# Altium footprint library Test.PcbLib: 22 footprints (part 2 of 2)
Each footprint in its own frame and in the unit in brackets; x right, y up, seen from the top. Pads: shape width x height; smd on the part's side, far side on the other; paste and mask are expansions set on the pad; w line width, h text height; cw(c..) or ccw(c..) is an arc to the next point about the centre after c.
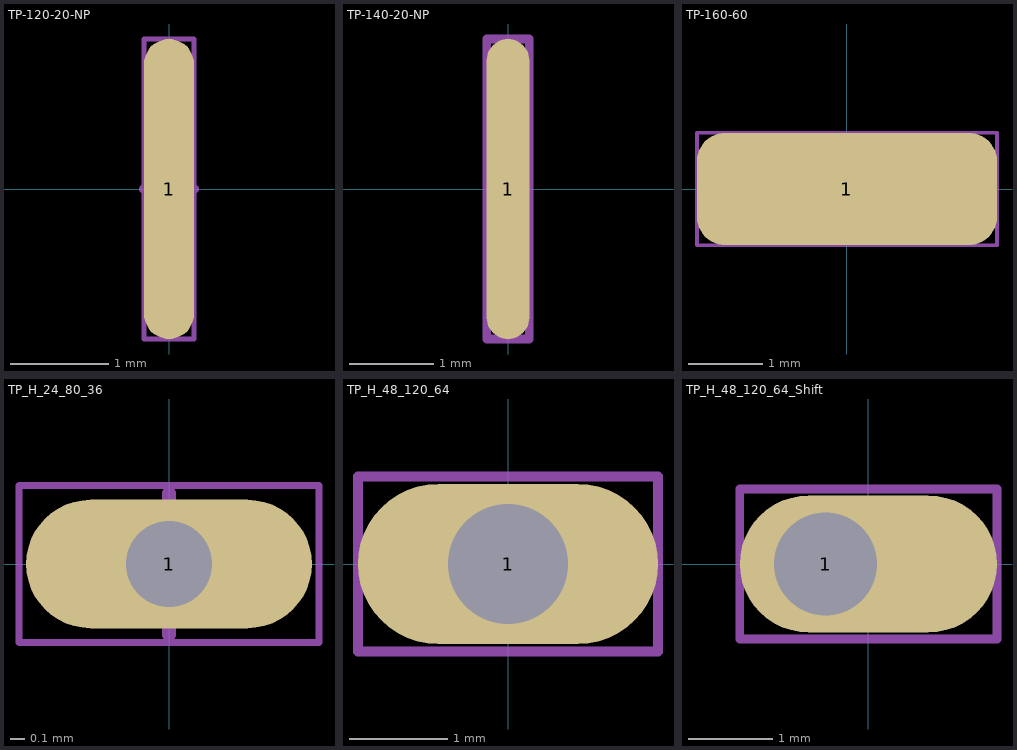
[diagram p1: the footprints below, top view; thin cyan lines are the x and y axes]

## TP-120-20-NP [mil]
pads (1):
  oval 20x120 smd paste-99999: 1(0,0)
Top Component Center:
  lines w3.94: -10,0 10,0 ; 0,-19.68 0,19.69
Top Courtyard:
  lines w1.97: -10,-60 10,-60 10,60 -10,60 -10,-60

## TP-140-20-NP [mil]
pads (1):
  oval 20x140 smd paste-99999: 1(0,0)
Top Component Center:
  lines w3.94: -10,0 10,0 ; 0,-19.68 0,19.69
Top Courtyard:
  lines w4: -10,-70 10,-70 10,70 -10,70 -10,-70

## TP-160-60 [mil]
pads (1):
  rrect50% 160x60 smd: 1(0,0)
Top Component Center:
  lines w3.94: -19.68,0 19.69,0 ; 0,-19.68 0,19.69
Top Courtyard:
  lines w1.97: -80,-30 80,-30 80,30 -80,30 -80,-30

## TP_H_24_80_36 [mil]
pads (1):
  oval 80x36 hole 24: 1(0,0)
Top Component Center:
  lines w3.94: -19.68,0 19.69,0 ; 0,-19.68 0,19.69
Top Courtyard:
  lines w2: -42,-22 42,-22 42,22 -42,22 -42,-22

## TP_H_48_120_64 [mil]
pads (1):
  oval 120x64 hole 48: 1(0,0)
Top Component Center:
  lines w3.94: -19.68,0 19.69,0 ; 0,-19.68 0,19.69
Top Courtyard:
  lines w4: -60,-35 60,-35 60,35 -60,35 -60,-35

## TP_H_48_120_64_Shift [mil] "Hole on left 1/3"
pads (1):
  oval 120x64 hole 48 copper offset 20,0: 1(-20,0)
Top Component Center:
  lines w3.94: -19.68,0 19.69,0 ; 0,-19.68 0,19.69
Top Courtyard:
  lines w4: -60,-35 60,-35 60,35 -60,35 -60,-35